# Altium footprint library MIC23155.PcbLib: 4 footprints
Each footprint in its own frame and in the unit in brackets; x right, y up, seen from the top. Pads: shape width x height; smd on the part's side, far side on the other; paste and mask are expansions set on the pad; w line width, h text height; cw(c..) or ccw(c..) is an arc to the next point about the centre after c.
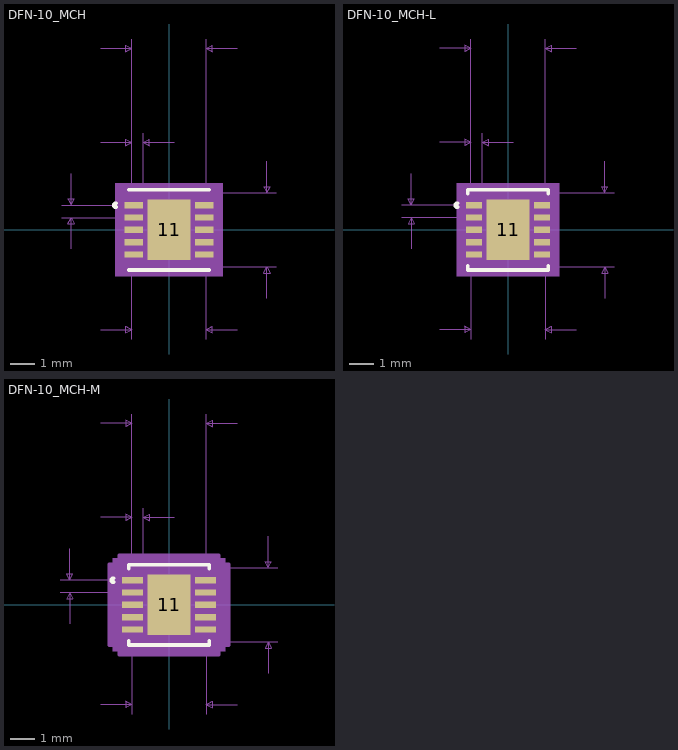
[diagram p0: the footprints below, top view; thin cyan lines are the x and y axes]

## DFN-10_MCH [mm]
pads (11):
  rect 0.755x0.254 smd paste+0 mask+0: 1(-1.427,1) 2(-1.427,0.5) 3(-1.427,0) 4(-1.427,-0.5) 5(-1.427,-1) 6(1.427,-1) 7(1.427,-0.5) 8(1.427,0) 9(1.427,0.5) 10(1.427,1)
  rect 1.75x2.45 smd paste+0 mask+0: 11(0,0)
Top Overlay:
  lines w0.152: -2.138,0.926 cw(c-2.156,1) -2.138,1.074 ; -1.627,-1.627 1.627,-1.627 ; -1.627,1.627 1.627,1.627
Mechanical 5:
  region: 2.186,-1.881 -2.186,-1.881 -2.186,1.881 2.186,1.881
Mechanical 7:
  lines w0.025: -4.348,0.5 -1.427,0.5 ; -4.348,1 -1.427,1 ; -3.967,-0.77 -3.967,0.5 ; -3.967,2.27 -3.967,1 ; -2.77,-4.04 -1.5,-4.04 ; -2.77,3.54 -1.5,3.54 ; -2.77,7.35 -1.5,7.35 ; -1.5,-4.421 -1.5,-1.5 ; -1.5,3.921 -1.5,1 -1.5,7.731 ; -1.05,1 -1.05,3.921 ; 0.22,3.54 -1.05,3.54 ; 1.5,-4.421 1.5,-1.5 4.348,-1.5 ; 1.5,1 1.5,7.731 ; 1.5,1.5 4.348,1.5 ; 2.77,-4.04 1.5,-4.04 ; 2.77,7.35 1.5,7.35 ; 3.967,-2.77 3.967,-1.5 ; 3.967,2.77 3.967,1.5 ; -3.967,0.5 -4.094,0.246 -3.84,0.246 -3.967,0.5 ; -3.967,1 -4.094,1.254 -3.84,1.254 -3.967,1 ; -1.5,-4.04 -1.754,-3.913 -1.754,-4.167 -1.5,-4.04 ; -1.5,3.54 -1.754,3.667 -1.754,3.413 -1.5,3.54 ; -1.5,7.35 -1.754,7.477 -1.754,7.223 -1.5,7.35 ; -1.05,3.54 -0.796,3.667 -0.796,3.413 -1.05,3.54 ; 1.5,-4.04 1.754,-3.913 1.754,-4.167 1.5,-4.04 ; 1.5,7.35 1.754,7.477 1.754,7.223 1.5,7.35 ; 3.967,-1.5 3.84,-1.754 4.094,-1.754 3.967,-1.5 ; 3.967,1.5 3.84,1.754 4.094,1.754 3.967,1.5
  text "Default Padstyle: RX29p72Y10D0T" at -9.842,-10.898 h1.27
  text "Heat Tab Padstyle: RX68p9Y96p46D0T" at -10.795,-12.422 h1.27
  text "Alt 1 Padstyle: OX60Y90D30P" at -8.572,-15.47 h1.27
  text "Alt 2 Padstyle: OX90Y60D30P" at -8.572,-16.994 h1.27
  text "0.118in/3mm" at -1.746,7.858 h0.64
  text "0.018in/0.45mm" at -3.497,4.048 h0.64
  text "0.02in/0.5mm" at -8.285,0.433 h0.64
  text "0.118in/3mm" at 4.475,-0.318 h0.64
  text "0.118in/3mm" at -1.746,-5.183 h0.64
Mechanical 13:
  lines w0.025: -1.5,-1.5 1.5,-1.5 1.5,1.5 -1.5,1.5 -1.5,-1.5
Mechanical 15:
  region: -1.754,-1.381 -2.059,-1.381 -2.059,1.381 -1.754,1.381 -1.754,1.754 1.754,1.754 1.754,1.381 2.059,1.381 2.059,-1.381 1.754,-1.381 1.754,-1.754 -1.754,-1.754
  lines w0.152: -2.059,-1.381 -2.059,1.381 -1.754,1.381 -1.754,1.754 1.754,1.754 1.754,1.381 2.059,1.381 2.059,-1.381 1.754,-1.381 1.754,-1.754 -1.754,-1.754 -1.754,-1.381 -2.059,-1.381
3D body "DFN-10_MCH.step": height 0.61, standoff 0, extent -1.5,-1.5 1.5,1.5
3D body "DFN-10_MCH.step": height 0.61, standoff 0, extent -1.5,-1.5 1.5,1.5
3D body "DFN-10_MCH.step": height 0.61, standoff 0, extent -1.5,-1.5 1.5,1.5
3D body "DFN-10_MCH.step": height 0.61, standoff 0, extent -1.5,-1.5 1.5,1.5
3D body: height 0.25, standoff 0, extent 0,0 0.254,0.254

## DFN-10_MCH-L [mm]
pads (11):
  rect 0.653x0.254 smd paste+0 mask+0: 1(-1.377,1) 2(-1.377,0.5) 3(-1.377,0) 4(-1.377,-0.5) 5(-1.377,-1) 6(1.377,-1) 7(1.377,-0.5) 8(1.377,0) 9(1.377,0.5) 10(1.377,1)
  rect 1.75x2.45 smd paste+0 mask+0: 11(0,0)
Top Overlay:
  lines w0.152: -2.036,0.926 cw(c-2.055,1) -2.036,1.074 ; -1.627,-1.46 -1.627,-1.627 1.627,-1.627 1.627,-1.46 ; -1.627,1.46 -1.627,1.627 1.627,1.627 1.627,1.46
Mechanical 5:
  region: 2.084,-1.881 -2.084,-1.881 -2.084,1.881 2.084,1.881
Mechanical 7:
  lines w0.025: -4.298,0.5 -1.377,0.5 ; -4.298,1 -1.377,1 ; -3.917,-0.77 -3.917,0.5 ; -3.917,2.27 -3.917,1 ; -2.77,-4.04 -1.5,-4.04 ; -2.77,3.54 -1.5,3.54 ; -2.77,7.35 -1.5,7.35 ; -1.5,-4.421 -1.5,-1.5 ; -1.5,3.921 -1.5,1 -1.5,7.731 ; -1.05,1 -1.05,3.921 ; 0.22,3.54 -1.05,3.54 ; 1.5,-4.421 1.5,-1.5 4.298,-1.5 ; 1.5,1 1.5,7.731 ; 1.5,1.5 4.298,1.5 ; 2.77,-4.04 1.5,-4.04 ; 2.77,7.35 1.5,7.35 ; 3.917,-2.77 3.917,-1.5 ; 3.917,2.77 3.917,1.5 ; -3.917,0.5 -4.044,0.246 -3.79,0.246 -3.917,0.5 ; -3.917,1 -4.044,1.254 -3.79,1.254 -3.917,1 ; -1.5,-4.04 -1.754,-3.913 -1.754,-4.167 -1.5,-4.04 ; -1.5,3.54 -1.754,3.667 -1.754,3.413 -1.5,3.54 ; -1.5,7.35 -1.754,7.477 -1.754,7.223 -1.5,7.35 ; -1.05,3.54 -0.796,3.667 -0.796,3.413 -1.05,3.54 ; 1.5,-4.04 1.754,-3.913 1.754,-4.167 1.5,-4.04 ; 1.5,7.35 1.754,7.477 1.754,7.223 1.5,7.35 ; 3.917,-1.5 3.79,-1.754 4.044,-1.754 3.917,-1.5 ; 3.917,1.5 3.79,1.754 4.044,1.754 3.917,1.5
  text "Default Padstyle: RX25p72Y10D0T" at -9.842,-10.898 h1.27
  text "Heat Tab Padstyle: RX68p9Y96p46D0T" at -10.795,-12.422 h1.27
  text "Alt 1 Padstyle: OX60Y90D30P" at -8.572,-15.47 h1.27
  text "Alt 2 Padstyle: OX90Y60D30P" at -8.572,-16.994 h1.27
  text "0.118in/3mm" at -1.746,7.858 h0.64
  text "0.018in/0.45mm" at -3.497,4.048 h0.64
  text "0.02in/0.5mm" at -8.235,0.433 h0.64
  text "0.118in/3mm" at 4.425,-0.318 h0.64
  text "0.118in/3mm" at -1.746,-5.183 h0.64
Mechanical 13:
  lines w0.025: -1.5,-1.5 1.5,-1.5 1.5,1.5 -1.5,1.5 -1.5,-1.5
Mechanical 15:
  region: -1.602,-1.229 -1.805,-1.229 -1.805,1.229 -1.602,1.229 -1.602,1.602 1.602,1.602 1.602,1.229 1.805,1.229 1.805,-1.229 1.602,-1.229 1.602,-1.602 -1.602,-1.602
  lines w0.152: -1.805,-1.229 -1.805,1.229 -1.602,1.229 -1.602,1.602 1.602,1.602 1.602,1.229 1.805,1.229 1.805,-1.229 1.602,-1.229 1.602,-1.602 -1.602,-1.602 -1.602,-1.229 -1.805,-1.229
3D body: height 0.25, standoff 0, extent 0,0 0.254,0.254

## DFN-10_MCH-M [mm]
pads (11):
  rect 0.856x0.254 smd paste+0 mask+0: 1(-1.478,1) 2(-1.478,0.5) 3(-1.478,0) 4(-1.478,-0.5) 5(-1.478,-1) 6(1.478,-1) 7(1.478,-0.5) 8(1.478,0) 9(1.478,0.5) 10(1.478,1)
  rect 1.75x2.45 smd paste+0 mask+0: 11(0,0)
Top Overlay:
  lines w0.152: -2.239,0.926 cw(c-2.258,1) -2.239,1.074 ; -1.627,-1.46 -1.627,-1.627 1.627,-1.627 1.627,-1.46 ; -1.627,1.46 -1.627,1.627 1.627,1.627 1.627,1.46
Mechanical 5:
  region: 2.287,-1.881 -2.287,-1.881 -2.287,1.881 2.287,1.881
Mechanical 7:
  lines w0.025: -4.399,0.5 -1.478,0.5 ; -4.399,1 -1.478,1 ; -4.018,-0.77 -4.018,0.5 ; -4.018,2.27 -4.018,1 ; -2.77,-4.04 -1.5,-4.04 ; -2.77,3.54 -1.5,3.54 ; -2.77,7.35 -1.5,7.35 ; -1.5,-4.421 -1.5,-1.5 ; -1.5,3.921 -1.5,1 -1.5,7.731 ; -1.05,1 -1.05,3.921 ; 0.22,3.54 -1.05,3.54 ; 1.5,-4.421 1.5,-1.5 4.399,-1.5 ; 1.5,1 1.5,7.731 ; 1.5,1.5 4.399,1.5 ; 2.77,-4.04 1.5,-4.04 ; 2.77,7.35 1.5,7.35 ; 4.018,-2.77 4.018,-1.5 ; 4.018,2.77 4.018,1.5 ; -4.018,0.5 -4.145,0.246 -3.891,0.246 -4.018,0.5 ; -4.018,1 -4.145,1.254 -3.891,1.254 -4.018,1 ; -1.5,-4.04 -1.754,-3.913 -1.754,-4.167 -1.5,-4.04 ; -1.5,3.54 -1.754,3.667 -1.754,3.413 -1.5,3.54 ; -1.5,7.35 -1.754,7.477 -1.754,7.223 -1.5,7.35 ; -1.05,3.54 -0.796,3.667 -0.796,3.413 -1.05,3.54 ; 1.5,-4.04 1.754,-3.913 1.754,-4.167 1.5,-4.04 ; 1.5,7.35 1.754,7.477 1.754,7.223 1.5,7.35 ; 4.018,-1.5 3.891,-1.754 4.145,-1.754 4.018,-1.5 ; 4.018,1.5 3.891,1.754 4.145,1.754 4.018,1.5
  text "Default Padstyle: RX33p72Y10D0T" at -9.842,-10.898 h1.27
  text "Heat Tab Padstyle: RX68p9Y96p46D0T" at -10.795,-12.422 h1.27
  text "Alt 1 Padstyle: OX60Y90D30P" at -8.572,-15.47 h1.27
  text "Alt 2 Padstyle: OX90Y60D30P" at -8.572,-16.994 h1.27
  text "0.118in/3mm" at -1.746,7.858 h0.64
  text "0.018in/0.45mm" at -3.497,4.048 h0.64
  text "0.02in/0.5mm" at -8.336,0.433 h0.64
  text "0.118in/3mm" at 4.526,-0.318 h0.64
  text "0.118in/3mm" at -1.746,-5.183 h0.64
Mechanical 13:
  lines w0.025: -1.5,-1.5 1.5,-1.5 1.5,1.5 -1.5,1.5 -1.5,-1.5
Mechanical 15:
  region: -2.008,-1.635 -2.414,-1.635 -2.414,1.635 -2.008,1.635 -2.008,2.008 2.008,2.008 2.008,1.635 2.414,1.635 2.414,-1.635 2.008,-1.635 2.008,-2.008 -2.008,-2.008
  lines w0.152: -2.414,-1.635 -2.414,1.635 -2.008,1.635 -2.008,2.008 2.008,2.008 2.008,1.635 2.414,1.635 2.414,-1.635 2.008,-1.635 2.008,-2.008 -2.008,-2.008 -2.008,-1.635 -2.414,-1.635
3D body: height 0.25, standoff 0, extent 0,0 0.254,0.254

## PCBComponent_1 [mm]